# Altium schematic symbol library SCH - MOSFETS - BSS138LT3G.SCHLIB: 1 symbol
Pins are listed as number, name and electrical type; pins without a type are passive.

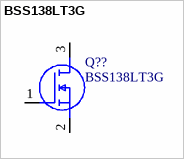
[diagram p0: symbol BSS138LT3G]

## BSS138LT3G
designator Q??
MOSFET (N-Channel)
pins: 1 G, 2 S, 3 D